# EAGLE library part DRV8303 (library RoboJackets-PowerICs)
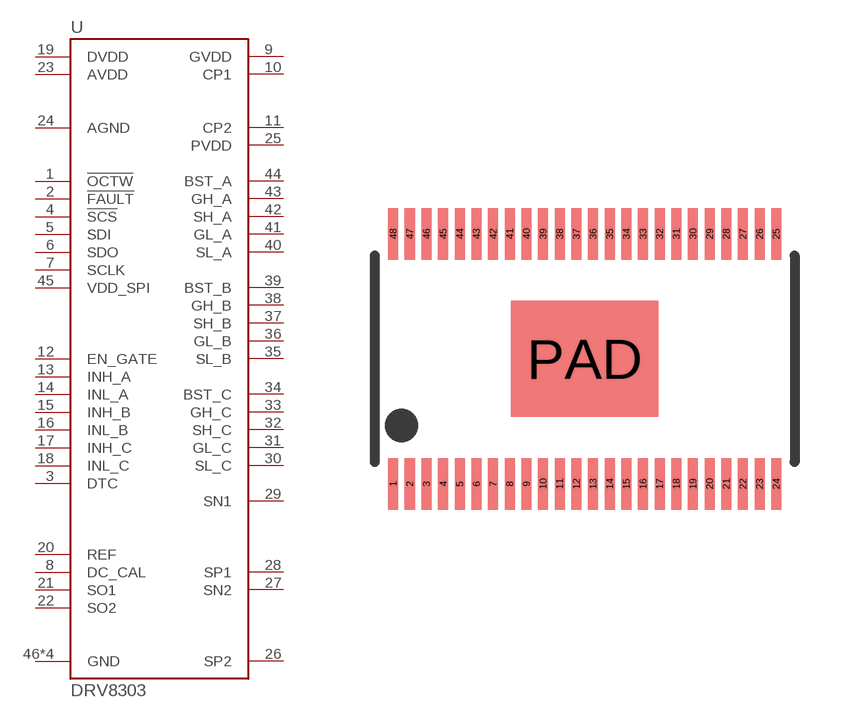
[diagram p9: symbol with the pads of TSSOP-48_PAD; footprint TSSOP-48_PAD]

Designator prefix U

## DRV8303DCA (DIGIKEY: 296-40070-1-ND; MPN: DRV8303DCAR)  [TSSOP-48_PAD]
1  !OCTW
2  !FAULT
3  DTC
4  !SCS
5  SDI
6  SDO
7  SCLK
8  DC_CAL
9  GVDD
10  CP1
11  CP2
12  EN_GATE
13  INH_A
14  INL_A
15  INH_B
16  INL_B
17  INH_C
18  INL_C
19  DVDD
20  REF
21  SO1
22  SO2
23  AVDD
24  AGND
25  PVDD
26  SP2
27  SN2
28  SP1
29  SN1
30  SL_C
31  GL_C
32  SH_C
33  GH_C
34  BST_C
35  SL_B
36  GL_B
37  SH_B
38  GH_B
39  BST_B
40  SL_A
41  GL_A
42  SH_A
43  GH_A
44  BST_A
45  VDD_SPI
46  GND
47  GND
48  GND
PAD  GND

## Footprint TSSOP-48_PAD (pad centres in mm)
smd 0.3 x 1.55: 1 -5.75,-3.75; 2 -5.25,-3.75; 3 -4.75,-3.75; 4 -4.25,-3.75; 5 -3.75,-3.75; 6 -3.25,-3.75; 7 -2.75,-3.75; 8 -2.25,-3.75; 9 -1.75,-3.75; 10 -1.25,-3.75; 11 -0.75,-3.75; 12 -0.25,-3.75; 13 0.25,-3.75; 14 0.75,-3.75; 15 1.25,-3.75; 16 1.75,-3.75; 17 2.25,-3.75; 18 2.75,-3.75; 19 3.25,-3.75; 20 3.75,-3.75; 21 4.25,-3.75; 22 4.75,-3.75; 23 5.25,-3.75; 24 5.75,-3.75; 25 5.75,3.75; 26 5.25,3.75; 27 4.75,3.75; 28 4.25,3.75; 29 3.75,3.75; 30 3.25,3.75; 31 2.75,3.75; 32 2.25,3.75; 33 1.75,3.75; 34 1.25,3.75; 35 0.75,3.75; 36 0.25,3.75; 37 -0.25,3.75; 38 -0.75,3.75; 39 -1.25,3.75; 40 -1.75,3.75; 41 -2.25,3.75; 42 -2.75,3.75; 43 -3.25,3.75; 44 -3.75,3.75; 45 -4.25,3.75; 46 -4.75,3.75; 47 -5.25,3.75; 48 -5.75,3.75
smd 4.42 x 3.483: PAD 0,0